# Altium footprint library PLS-6.PcbLib: 1 footprints
Each footprint in its own frame and in the unit in brackets; x right, y up, seen from the top. Pads: shape width x height; smd on the part's side, far side on the other; paste and mask are expansions set on the pad; w line width, h text height; cw(c..) or ccw(c..) is an arc to the next point about the centre after c.
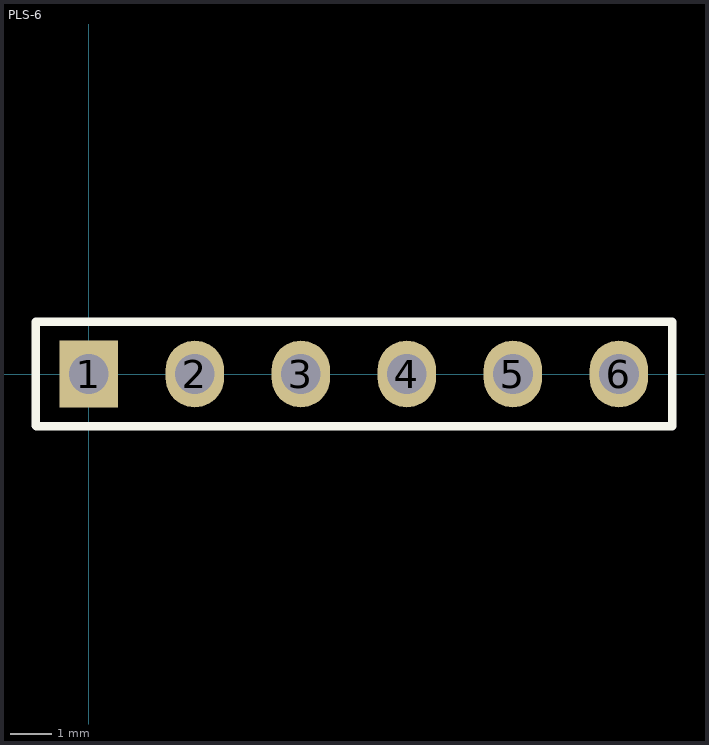
[diagram p0: the footprint, top view; thin cyan lines are the x and y axes]

## PLS-6 [mm] "2.54mm PIN HEADER R/A"
pads (6):
  rect 1.4x1.6 hole 0.95: 1(0,0)
  oval 1.4x1.6 hole 0.95: 2(2.54,0) 3(5.08,0) 4(7.62,0) 5(10.16,0) 6(12.7,0)
Top Overlay:
  lines w0.2: -1.27,-1.24 -1.27,1.25 13.975,1.25 13.975,-1.25 -1.26,-1.25
3D body "User Library-1x6 TH Pitch 2_54mm.STEP": height 9.2, standoff -3.5, extent -1.245,-1.29 13.995,1.25